# Altium footprint library BUK6Y10-30P.PcbLib: 1 footprints
Each footprint in its own frame and in the unit in brackets; x right, y up, seen from the top. Pads: shape width x height; smd on the part's side, far side on the other; paste and mask are expansions set on the pad; w line width, h text height; cw(c..) or ccw(c..) is an arc to the next point about the centre after c.
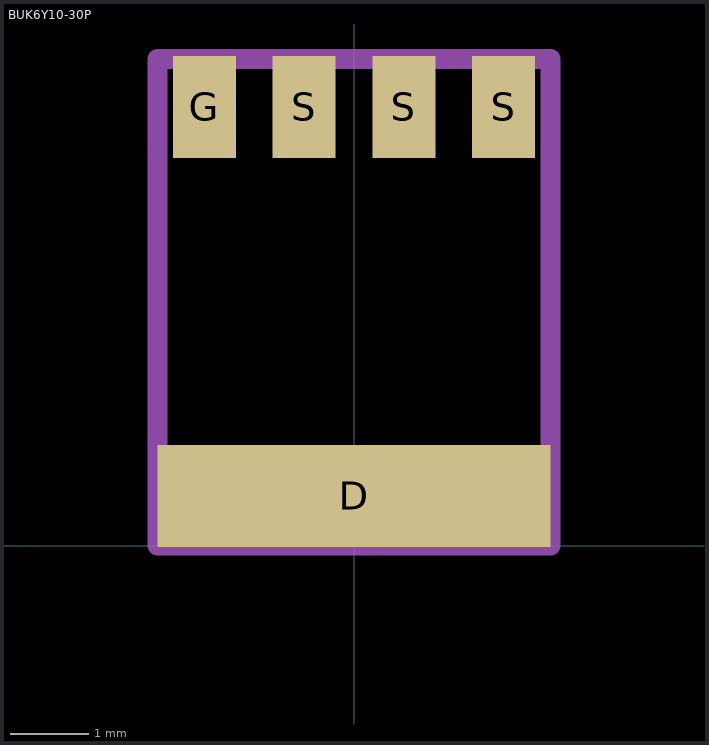
[diagram p0: the footprint, top view; thin cyan lines are the x and y axes]

## BUK6Y10-30P [mm]
pads (5):
  rect 5x1.3 smd: D(0,0.635)
  rect 0.8x1.3 smd: G(-1.905,5.588) S(-0.635,5.588) S(0.635,5.588) S(1.905,5.588)
Mechanical 1:
  lines w0.254: -2.5,0 -2.5,6.2 2.5,6.2 2.5,0 -2.5,0
3D body "SOT669.step": height 1, standoff 0, extent -2.405,0.006 2.405,6.116